# Altium schematic symbol library PIC16(L)F1764+5+8+9.SchLib: 1 symbol
Pins are listed as number, name and electrical type; pins without a type are passive.

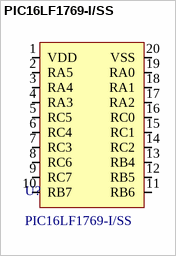
[diagram p0: symbol PIC16LF1769-I/SS]

## PIC16LF1769-I/SS
designator U?
PIC series Microcontroller IC 8-Bit 32MHz 14KB (8K x 14) FLASH 20-SSOP; Manufacturer 1: Microchip Technology; Manufacturer Part Number 1: PIC16LF1769-I/SS; Type: PIC16LF1769-I/SS
footprint SSOP20_0.65_C
pins: 1 VDD, 2 RA5, 3 RA4, 4 RA3, 5 RC5, 6 RC4, 7 RC3, 8 RC6, 9 RC7, 10 RB7, 11 RB6, 12 RB5, 13 RB4, 14 RC2, 15 RC1, 16 RC0, 17 RA2, 18 RA1, 19 RA0, 20 VSS